# EAGLE library part PLS_2X32 (library barthess)
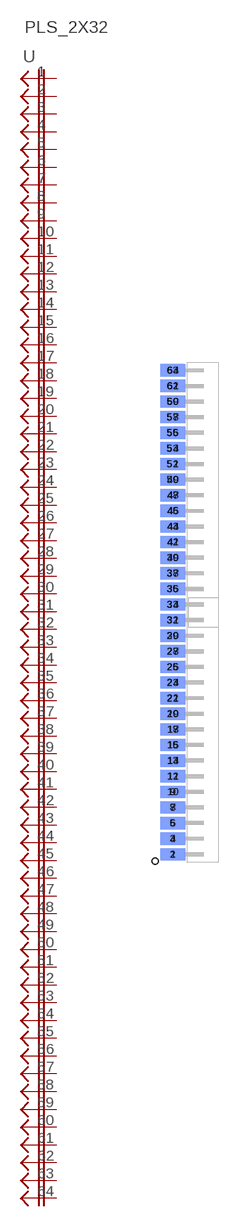
[diagram p36: symbol with the pads of PLS_2X32_PSEUDOSMD; footprint PLS_2X32_PSEUDOSMD]

Designator prefix -

## PLS_2X32  [PLS_2X32_PSEUDOSMD]
1  1  pas
2  2  pas
3  3  pas
4  4  pas
5  5  pas
6  6  pas
7  7  pas
8  8  pas
9  9  pas
10  10  pas
11  11  pas
12  12  pas
13  13  pas
14  14  pas
15  15  pas
16  16  pas
17  17  pas
18  18  pas
19  19  pas
20  20  pas
21  21  pas
22  22  pas
23  23  pas
24  24  pas
25  25  pas
26  26  pas
27  27  pas
28  28  pas
29  29  pas
30  30  pas
31  31  pas
32  32  pas
33  33  pas
34  34  pas
35  35  pas
36  36  pas
37  37  pas
38  38  pas
39  39  pas
40  40  pas
41  41  pas
42  42  pas
43  43  pas
44  44  pas
45  45  pas
46  46  pas
47  47  pas
48  48  pas
49  49  pas
50  50  pas
51  51  pas
52  52  pas
53  53  pas
54  54  pas
55  55  pas
56  56  pas
57  57  pas
58  58  pas
59  59  pas
60  60  pas
61  61  pas
62  62  pas
63  63  pas
64  64  pas

## Footprint PLS_2X32_PSEUDOSMD (pad centres in mm)
smd 4 x 2: 1 -3.81,-39.37; 3 -3.81,-36.83; 5 -3.81,-34.29; 7 -3.81,-31.75; 9 -3.81,-29.21; 11 -3.81,-26.67; 13 -3.81,-24.13; 15 -3.81,-21.59; 17 -3.81,-19.05; 19 -3.81,-16.51; 21 -3.81,-13.97; 23 -3.81,-11.43; 25 -3.81,-8.89; 27 -3.81,-6.35; 29 -3.81,-3.81; 31 -3.81,-1.27; 33 -3.81,1.27; 35 -3.81,3.81; 37 -3.81,6.35; 39 -3.81,8.89; 41 -3.81,11.43; 43 -3.81,13.97; 45 -3.81,16.51; 47 -3.81,19.05; 49 -3.81,21.59; 51 -3.81,24.13; 53 -3.81,26.67; 55 -3.81,29.21; 57 -3.81,31.75; 59 -3.81,34.29; 61 -3.81,36.83; 63 -3.81,39.37
smd 4 x 2 bottom: 2 -3.81,-39.37; 4 -3.81,-36.83; 6 -3.81,-34.29; 8 -3.81,-31.75; 10 -3.81,-29.21; 12 -3.81,-26.67; 14 -3.81,-24.13; 16 -3.81,-21.59; 18 -3.81,-19.05; 20 -3.81,-16.51; 22 -3.81,-13.97; 24 -3.81,-11.43; 26 -3.81,-8.89; 28 -3.81,-6.35; 30 -3.81,-3.81; 32 -3.81,-1.27; 34 -3.81,1.27; 36 -3.81,3.81; 38 -3.81,6.35; 40 -3.81,8.89; 42 -3.81,11.43; 44 -3.81,13.97; 46 -3.81,16.51; 48 -3.81,19.05; 50 -3.81,21.59; 52 -3.81,24.13; 54 -3.81,26.67; 56 -3.81,29.21; 58 -3.81,31.75; 60 -3.81,34.29; 62 -3.81,36.83; 64 -3.81,39.37